# Altium schematic symbol library RK10J12E002L.SCHLIB: 1 symbol
Pins are listed as number, name and electrical type; pins without a type are passive.

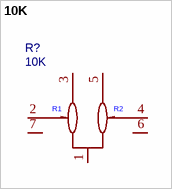
[diagram p0: symbol 10K]

## 10K
designator R?
BOM_Manufacturer: ALPS Electric; BOM_Manufacturer Part: RK10J12E002L; nameAlias: Resistance (Ohms); Contributor: LCSC; BOM_Supplier: LCSC; BOM_Supplier Part: C231765; spicePre: R; spiceSymbolName: RK10J12E002L
footprint RES-TH_RK10J12E002L
pins: 1, 2, 3, 4, 5, 6 EH, 7 EH
text: R1; R2